# Altium footprint library PCB_LIB.PcbLib: 16 footprints
Each footprint in its own frame and in the unit in brackets; x right, y up, seen from the top. Pads: shape width x height; smd on the part's side, far side on the other; paste and mask are expansions set on the pad; w line width, h text height; cw(c..) or ccw(c..) is an arc to the next point about the centre after c.
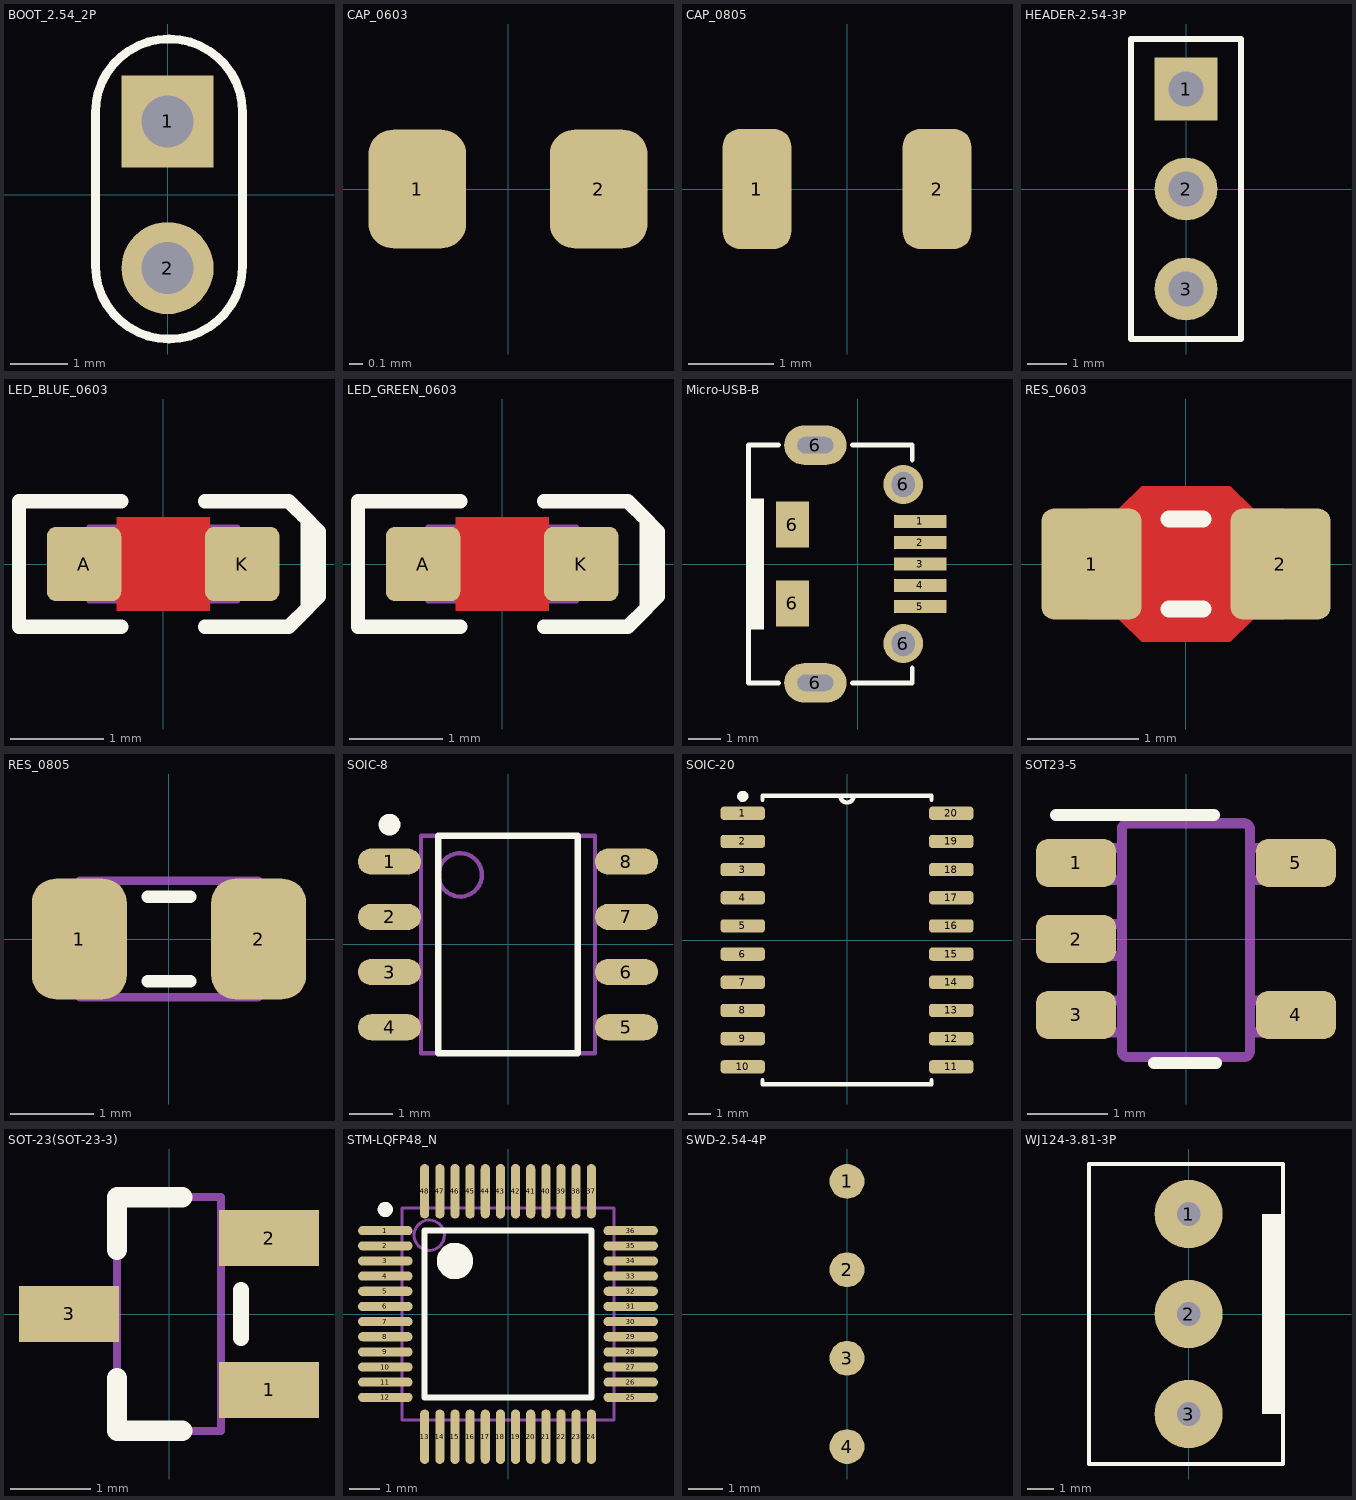
[diagram p0: the footprints below, top view; thin cyan lines are the x and y axes]

## BOOT_2.54_2P [mm]
pads (2):
  rect 1.6x1.6 hole 0.9: 1(0,1.27)
  round 1.6 hole 0.9: 2(0,-1.27)
Top Overlay:
  lines w0.15: 0.02,2.7 ccw(c0.02,1.43) -1.25,1.43 -1.25,-1.23 ccw(c0.02,-1.23) 0.02,-2.5 0.03,-2.5 ccw(c0.03,-1.23) 1.3,-1.23 1.3,1.43 ccw(c0.03,1.43) 0.03,2.7

## CAP_0603 [mm]
pads (2):
  rrect50% 0.7x0.85 smd: 1(-0.65,0) 2(0.65,0)
3D body "User Library-Chip Capacitor 0603.step": height 0.8, standoff 0, extent -0.8,-0.429 0.8,0.431

## CAP_0805 [mm]
pads (2):
  rrect50% 0.8x1.4 smd: 1(-1.05,0) 2(1.05,0)
3D body: height 0.5, standoff 0, extent -1,-0.625 1,0.625

## HEADER-2.54-3P [mm]
pads (3):
  rect 1.6x1.6 hole 0.9: 1(0,2.54)
  round 1.6 hole 0.9: 2(0,0) 3(0,-2.54)
Top Overlay:
  lines w0.152: -1.397,-3.81 -1.397,3.81 1.397,3.81 1.397,-3.81 -1.397,-3.81
3D body "User Library-PZ-3P.STEP": height 8, standoff -3, extent -1.27,-3.81 1.27,3.81

## LED_BLUE_0603 [mm]
pads (2):
  rrect25% 0.8x0.8 smd: A(-0.85,0) K(0.85,0)
Top Layer:
  pour cut-out: -0.5,0.5 0.5,0.5 0.5,-0.5 -0.5,-0.5
Top Overlay:
  lines w0.152: -0.45,-0.675 -1.55,-0.675 -1.55,0.675 -0.45,0.675 ; 0.45,-0.675 1.35,-0.675 1.55,-0.475 1.55,0.475 1.35,0.675 0.45,0.675 ; 1.5,0.525 1.675,0.35 1.675,-0.35 1.525,-0.5
Mechanical 13:
  lines w0.05: -0.6,-0.4 -0.6,0.399 0.6,0.4 0.6,-0.4 -0.6,-0.399 ; -0.505,-0.398 -0.505,0.398 ; -0.5,-0.4 -0.8,-0.4 -0.8,0.4 -0.5,0.4 ; 0.5,-0.4 0.8,-0.4 0.8,0.4 0.5,0.4 ; 0.505,-0.398 0.505,0.398 ; -0.599,-0.398 0.599,-0.398 0.599,0.398 -0.599,0.398 -0.599,-0.398
3D body "User Library-LED_0603_B.STEP": height 0.6, standoff 0, extent -0.8,-0.4 0.8,0.4

## LED_GREEN_0603 [mm]
pads (2):
  rrect25% 0.8x0.8 smd: A(-0.85,0) K(0.85,0)
Top Layer:
  pour cut-out: -0.5,0.5 0.5,0.5 0.5,-0.5 -0.5,-0.5
Top Overlay:
  lines w0.152: -0.45,-0.675 -1.55,-0.675 -1.55,0.675 -0.45,0.675 ; 0.45,-0.675 1.35,-0.675 1.55,-0.475 1.55,0.475 1.35,0.675 0.45,0.675 ; 1.5,0.525 1.675,0.35 1.675,-0.35 1.525,-0.5
Mechanical 13:
  lines w0.05: -0.6,-0.4 -0.6,0.399 0.6,0.4 0.6,-0.4 -0.6,-0.399 ; -0.505,-0.398 -0.505,0.398 ; -0.5,-0.4 -0.8,-0.4 -0.8,0.4 -0.5,0.4 ; 0.5,-0.4 0.8,-0.4 0.8,0.4 0.5,0.4 ; 0.505,-0.398 0.505,0.398 ; -0.599,-0.398 -0.599,0.398 0.599,0.398 0.599,-0.398 -0.599,-0.398
3D body "User Library-LED_0603_G.STEP": height 0.6, standoff 0, extent -0.8,-0.4 0.8,0.4

## Micro-USB-B [mm]
pads (11):
  rect 1.6x0.4 smd: 1(1.9,1.3) 2(1.9,0.65) 3(1.9,0) 4(1.9,-0.65) 5(1.9,-1.3)
  rect 1x1.4 smd: 6(-2,-1.2) 6(-2,1.2)
  oval 1.9x1.2 hole 0.5 slot 1.1 at 0 deg: 6(-1.3,-3.625) 6(-1.3,3.625)
  round 1.2 hole 0.7 slot 0.762 at 90 deg: 6(1.38,-2.425) 6(1.38,2.425)
Top Overlay:
  rectangle: -3.371,-2 -2.871,2
  lines w0.15: -3.345,-3.625 -2.425,-3.625 ; -3.345,3.625 -2.425,3.625 ; -0.175,-3.625 1.655,-3.625 1.655,-3.17 ; -0.175,3.625 1.655,3.625 1.655,3.17
  lines w0.152: -3.345,-3.625 -3.345,3.625
3D body "User Library-MicroUSB-B_Molex_105017-0001.step": height 2.72, standoff -0.59, extent -3.857,-4.103 1.573,4.097

## RES_0603 [mm]
pads (2):
  rrect25% 0.9x1 smd: 1(-0.85,0) 2(0.85,0)
Top Layer:
  pour cut-out: -0.6,0.5 -0.4,0.7 0.4,0.7 0.6,0.5 0.6,-0.5 0.4,-0.7 -0.4,-0.7 -0.6,-0.5
Top Overlay:
  lines w0.152: -0.152,-0.406 0.152,-0.406 ; -0.152,0.406 0.152,0.406
Mechanical 13:
  lines w0.05: -0.875,-0.475 -0.875,0.475 -0.475,0.475 -0.475,-0.475 -0.875,-0.475 ; -0.475,-0.474 0.475,-0.474 -0.475,-0.474 ; -0.475,0.474 0.475,0.474 -0.475,0.474 ; 0.475,-0.475 0.875,-0.475 0.875,0.475 0.475,0.475 0.475,-0.475
3D body "RES 0603 (1608 metric).STEP": height 0.54, standoff -0.01, extent -0.875,-0.475 0.875,0.475

## RES_0805 [mm]
pads (2):
  rrect50% 1.143x1.45 smd: 1(-1.079,0) 2(1.079,0)
Top Overlay:
  lines w0.152: -0.254,-0.508 0.254,-0.508 ; -0.254,0.508 0.254,0.508
Mechanical 13:
  lines w0.1: -1.075,-0.7 -1.075,0.7 1.075,0.7 1.075,-0.7 -1.075,-0.7
3D body "User Library-CRS0805.STEP": height 0.5, standoff 0, extent -1,-0.625 1,0.625

## SOIC-8 [mm]
pads (8):
  oval 1.45x0.6 smd: 1(-2.725,1.905) 2(-2.725,0.635) 3(-2.725,-0.635) 4(-2.725,-1.905) 5(2.725,-1.905) 6(2.725,-0.635) 7(2.725,0.635) 8(2.725,1.905)
Top Overlay:
  circle w0.25: c-2.725,2.755 r0.125
  lines w0.152: -1.6,-2.5 1.6,-2.5 1.6,2.5 -1.6,2.5 -1.6,-2.5
Mechanical 13:
  circle w0.1: c-1.1,1.6 r0.5
  lines w0.1: -2,-2.5 2,-2.5 2,2.5 -2,2.5 -2,-2.5
3D body "SOIC8E.STEP": height 1.7, standoff 0, extent -2.974,-2.45 3.025,2.45

## SOIC-20 [mm]
pads (20):
  rrect50% 2x0.6 smd: 1(-4.699,5.715) 2(-4.699,4.445) 3(-4.699,3.175) 4(-4.699,1.905) 5(-4.699,0.635) 6(-4.699,-0.635) 7(-4.699,-1.905) 8(-4.699,-3.175) 9(-4.699,-4.445) 10(-4.699,-5.715) 11(4.699,-5.715) 12(4.699,-4.445) 13(4.699,-3.175) 14(4.699,-1.905) 15(4.699,-0.635) 16(4.699,0.635) 17(4.699,1.905) 18(4.699,3.175) 19(4.699,4.445) 20(4.699,5.715)
Top Overlay:
  circle w0.25: c-4.699,6.477 r0.125
  lines w0.2: -3.81,-6.325 -3.81,-6.502 3.81,-6.502 3.81,-6.325 ; -3.81,6.325 -3.81,6.502 -0.305,6.502 ; 3.81,6.325 3.81,6.502 0.305,6.502 ; -0.305,6.502 ccw(c0,6.502) 0.305,6.502 ; -0.305,6.502 0.305,6.502
3D body "ADM2587EBRWZ-REEL7--3DModel-STEP-15126.STEP": height 2.6, standoff -0.05, extent -5.163,-6.4 5.162,6.4

## SOT23-5 [mm]
pads (5):
  rrect50% 1x0.6 smd paste+0 mask+0.051: 1(-1.375,0.95) 2(-1.375,0) 3(-1.375,-0.95) 4(1.375,-0.95) 5(1.375,0.95)
Top Overlay:
  lines w0.152: -1.625,1.55 0.35,1.55 ; -0.4,-1.55 0.375,-1.55
Mechanical 13:
  lines w0.127: -0.801,1.371 cw(c-0.725,1.37) -0.725,1.446 ; -0.801,1.37 -0.801,-1.399 -0.801,-1.4 ccw(c-0.725,-1.399) -0.725,-1.475 ; -0.801,1.37 -0.801,1.371 ; -0.725,-1.475 -0.725,-1.475 ; -0.725,-1.475 0.723,-1.475 0.724,-1.475 ccw(c0.723,-1.399) 0.799,-1.4 0.799,-1.399 0.799,1.37 ; -0.725,1.446 0.723,1.446 0.724,1.446 cw(c0.723,1.37) 0.799,1.371 ; -0.725,1.446 -0.725,1.446 ; 0.799,1.37 0.799,1.371 ; -1.423,-1.167 -1.199,-1.167 -1.105,-1.167 -1.088,-1.167 -0.835,-1.167 -0.801,-1.167 -0.801,-0.767 -0.835,-0.767 -1.088,-0.767 -1.105,-0.767 -1.199,-0.767 -1.423,-0.767 -1.423,-1.167 ; -1.423,-0.215 -1.199,-0.215 -1.105,-0.215 -1.088,-0.215 -0.835,-0.215 -0.801,-0.215 -0.801,0.186 -0.835,0.186 -1.088,0.186 -1.105,0.186 -1.199,0.186 -1.423,0.186 -1.423,-0.215 ; -1.423,0.738 -1.199,0.738 -1.105,0.738 -1.088,0.738 -0.835,0.738 -0.801,0.738 -0.801,1.138 -0.835,1.138 -1.088,1.138 -1.105,1.138 -1.199,1.138 -1.423,1.138 -1.423,0.738 ; 0.799,-1.167 0.799,-0.767 0.834,-0.767 1.087,-0.767 1.103,-0.767 1.198,-0.767 1.422,-0.767 1.422,-1.167 1.198,-1.167 1.103,-1.167 1.087,-1.167 0.834,-1.167 0.799,-1.167 ; 0.799,0.738 0.799,1.138 0.834,1.138 1.087,1.138 1.103,1.138 1.198,1.138 1.422,1.138 1.422,0.738 1.198,0.738 1.103,0.738 1.087,0.738 0.834,0.738 0.799,0.738
3D body "SW3DPS-SOT-23-5-DEFAULT.STEP": height 1.05, standoff -0.05, extent -1.23,-1.5 1.27,1.5

## SOT-23(SOT-23-3) [mm]
pads (3):
  rect 1.25x0.7 smd: 1(1.25,-0.95) 2(1.25,0.95) 3(-1.25,0)
Top Overlay:
  lines w0.2: 0.9,-0.3 0.9,0.3
  lines w0.254: -0.65,-0.8 -0.65,-1.46 0.165,-1.46 ; 0.165,1.46 -0.65,1.46 ; -0.65,0.8 -0.65,1.46 ; -0.65,0.8 -0.65,1.46 ; -0.65,0.8 -0.65,1.46
Mechanical 13:
  lines w0.1: -0.65,-1.46 -0.65,1.46 ; -0.65,-1.46 0.65,-1.46 ; -0.65,-1.46 -0.65,1.46 ; -0.65,-1.46 0.65,-1.46 ; -0.65,-1.46 0.65,-1.46 ; -0.65,-1.46 -0.65,1.46 ; -0.65,1.46 0.65,1.46 ; -0.65,1.46 0.65,1.46 ; -0.65,1.46 0.65,1.46 ; 0.65,-1.46 0.65,1.46 ; 0.65,-1.46 0.65,1.46 ; 0.65,-1.46 0.65,1.46
3D body "SOT-23.step": height 1.3, standoff 0, extent -1.5,-1.5 1.5,1.5

## STM-LQFP48_N [mm] "QFP, 48-Leads, Body 7x7mm, Pitch 0.5mm, IPC Medium Density"
height 1.6
pads (48):
  oval 1.8x0.3 smd: 1(-4.05,2.75) 2(-4.05,2.25) 3(-4.05,1.75) 4(-4.05,1.25) 5(-4.05,0.75) 6(-4.05,0.25) 7(-4.05,-0.25) 8(-4.05,-0.75) 9(-4.05,-1.25) 10(-4.05,-1.75) 11(-4.05,-2.25) 12(-4.05,-2.75) 25(4.05,-2.75) 26(4.05,-2.25) 27(4.05,-1.75) 28(4.05,-1.25) 29(4.05,-0.75) 30(4.05,-0.25) 31(4.05,0.25) 32(4.05,0.75) 33(4.05,1.25) 34(4.05,1.75) 35(4.05,2.25) 36(4.05,2.75)
  oval 0.3x1.8 smd: 13(-2.75,-4.05) 14(-2.25,-4.05) 15(-1.75,-4.05) 16(-1.25,-4.05) 17(-0.75,-4.05) 18(-0.25,-4.05) 19(0.25,-4.05) 20(0.75,-4.05) 21(1.25,-4.05) 22(1.75,-4.05) 23(2.25,-4.05) 24(2.75,-4.05) 37(2.75,4.05) 38(2.25,4.05) 39(1.75,4.05) 40(1.25,4.05) 41(0.75,4.05) 42(0.25,4.05) 43(-0.25,4.05) 44(-0.75,4.05) 45(-1.25,4.05) 46(-1.75,4.05) 47(-2.25,4.05) 48(-2.75,4.05)
Top Overlay:
  circle w0.6: c-1.75,1.75 r0.3
  circle w0.25: c-4.05,3.45 r0.125
  lines w0.2: -2.75,-2.75 2.75,-2.75 2.75,2.75 -2.75,2.75 -2.75,-2.75
Mechanical 13:
  circle w0.1: c-2.6,2.6 r0.5
  lines w0.1: -3.5,-3.5 3.5,-3.5 3.5,3.5 -3.5,3.5 -3.5,-3.5
3D body "User Library-LQFP48_Grid_0_5.STEP": height 1.6, standoff 0, extent -4.5,-4.5 4.5,4.5

## SWD-2.54-4P [mm]
pads (4):
  round 1 smd paste-5: 1(0,3.81) 2(0,1.27) 3(0,-1.27) 4(0,-3.81)

## WJ124-3.81-3P [mm]
pads (3):
  round 2.6 hole 0.9: 1(0,3.81) 2(0,0) 3(0,-3.81)
Top Overlay:
  rectangle: 2.794,-3.81 3.6,3.81
  lines w0.152: -3.8,-5.715 3.6,-5.715 3.6,5.715 -3.8,5.715 -3.8,-5.715
3D body "70054358.stp": height 8.5, standoff -3.5, extent -3.744,-5.715 3.556,5.715